# EAGLE library part MKR1000 (library Arduino)
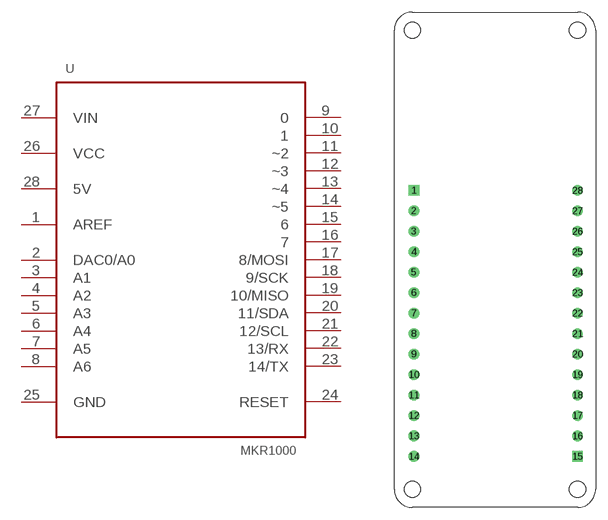
[diagram p0: symbol with the pads of MKR1000; footprint MKR1000]

Designator prefix U

## MKR1000  [MKR1000]
1  AREF
2  DAC0/A0
3  A1
4  A2
5  A3
6  A4
7  A5
8  A6
9  0
10  1
11  ~2
12  ~3
13  ~4
14  ~5
15  6
16  7
17  8/MOSI
18  9/SCK
19  10/MISO
20  11/SDA
21  12/SCL
22  13/RX
23  14/TX
24  RESET
25  GND
26  VCC
27  VIN
28  5V

## Footprint MKR1000 (pad centres in mm)
drill 0.8 square: 1 0,33.02; 15 20.32,0
drill 0.8: 2 0,30.48; 3 0,27.94; 4 0,25.4; 5 0,22.86; 6 0,20.32; 7 0,17.78; 8 0,15.24; 9 0,12.7; 10 0,10.16; 11 0,7.62; 12 0,5.08; 13 0,2.54; 14 0,0; 16 20.32,2.54; 17 20.32,5.08; 18 20.32,7.62; 19 20.32,10.16; 20 20.32,12.7; 21 20.32,15.24; 22 20.32,17.78; 23 20.32,20.32; 24 20.32,22.86; 25 20.32,25.4; 26 20.32,27.94; 27 20.32,30.48; 28 20.32,33.02
hole 2 at -0.19,52.915
hole 2 at 20.31,52.915
hole 2 at 20.31,-4.085
hole 2 at -0.19,-4.085